# Altium footprint library 618 0xx 293 21.PcbLib: 4 footprints
Each footprint in its own frame and in the unit in brackets; x right, y up, seen from the top. Pads: shape width x height; smd on the part's side, far side on the other; paste and mask are expansions set on the pad; w line width, h text height; cw(c..) or ccw(c..) is an arc to the next point about the centre after c.
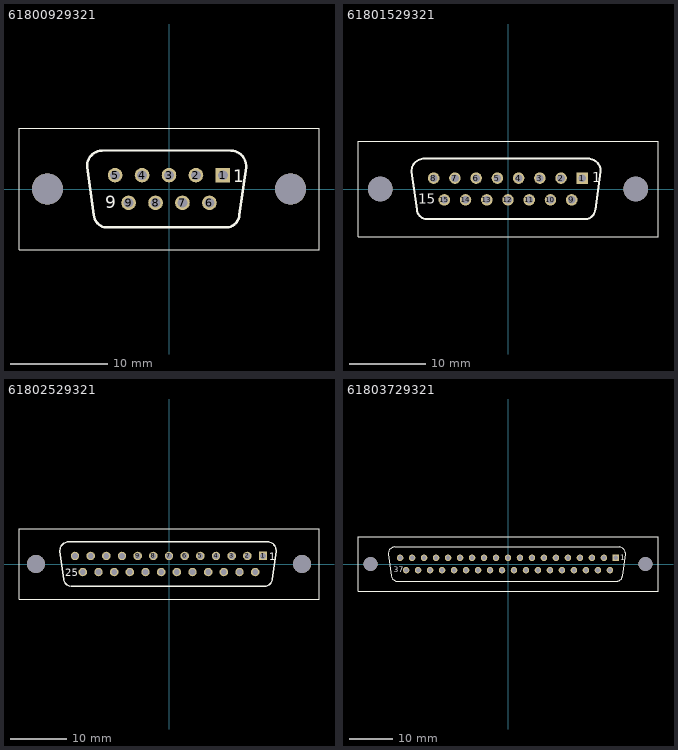
[diagram p0: the footprints below, top view; thin cyan lines are the x and y axes]

## 61800929321 [mm] "Female 09p Straight With board clip & Hex screw UNC 4-40"
height 11
pads (11):
  rect 1.5x1.5 hole 1: 1(5.54,1.42)
  round 1.5 hole 1: 2(2.77,1.42) 3(0,1.42) 4(-2.77,1.42) 5(-5.54,1.42) 6(4.155,-1.42) 7(1.385,-1.42) 8(-1.385,-1.42) 9(-4.155,-1.42)
  round 3.2 hole 3.2 unplated: ""(-12.495,0) ""(12.495,0)
Top Overlay:
  lines w0.127: -15.405,-6.25 15.405,-6.25 15.405,6.25 -15.405,6.25 -15.405,-6.25
  lines w0.254: -6.915,3.95 ccw(c-6.809,2.343) -8.415,2.237 -7.727,-2.663 ccw(c-6.34,-2.564) -6.656,-3.917 ; -6.915,3.954 6.4,3.954 ; -6.604,-3.933 6.096,-3.933 ; 6.156,-3.917 ccw(c5.84,-2.564) 7.227,-2.663 7.915,2.237 ccw(c6.309,2.343) 6.415,3.95
  text "1" at 6.604,0.686 h1.27
  text "9" at -6.528,-1.981 h1.27
3D body: height 12.7, standoff -4, extent -15.405,-6.25 15.405,6.25

## 61801529321 [mm] "Female 15p Straight With board clip & Hex screw UNC 4-40"
height 11
pads (17):
  rect 1.5x1.5 hole 1: 1(9.695,1.42)
  round 1.5 hole 1: 2(6.925,1.42) 3(4.155,1.42) 4(1.385,1.42) 5(-1.385,1.42) 6(-4.155,1.42) 7(-6.925,1.42) 8(-9.695,1.42) 9(8.31,-1.42) 10(5.54,-1.42) 11(2.77,-1.42) 12(0,-1.42) 13(-2.77,-1.42) 14(-5.54,-1.42) 15(-8.31,-1.42)
  round 3.2 hole 3.2 unplated: ""(-16.66,0) ""(16.66,0)
Top Overlay:
  lines w0.127: -19.57,-6.25 -19.57,6.25 19.57,6.25 19.57,-6.25 -19.57,-6.25
  lines w0.254: -11.08,3.95 ccw(c-10.974,2.344) -12.581,2.237 -11.892,-2.663 ccw(c-10.505,-2.564) -10.822,-3.917 ; -11.08,3.954 10.668,3.954 ; -10.795,-3.937 10.287,-3.937 ; 10.161,-3.945 ccw(c10.005,-2.564) 11.392,-2.663 12.08,2.237 ccw(c10.474,2.344) 10.58,3.95
  text "15" at -11.735,-1.956 h1.27
  text "1" at 10.973,0.864 h1.27
3D body: height 12.7, standoff -4, extent -19.57,-6.25 19.57,6.25

## 61802529321 [mm] "Female 25p Straight With board clip & Hex screw UNC 4-40"
height 11
pads (27):
  rect 1.5x1.5 hole 1: 1(16.62,1.42)
  round 1.5 hole 1: 2(13.85,1.42) 3(11.08,1.42) 4(8.31,1.42) 5(5.54,1.42) 6(2.77,1.42) 7(0,1.42) 8(-2.77,1.42) 9(-5.54,1.42) 10(-8.31,1.42) 11(-11.08,1.42) 12(-13.85,1.42) 13(-16.62,1.42) 14(15.235,-1.42) 15(12.465,-1.42) 16(9.695,-1.42) 17(6.925,-1.42) 18(4.155,-1.42) 19(1.385,-1.42) 20(-1.385,-1.42) 21(-4.155,-1.42) 22(-6.925,-1.42) 23(-9.695,-1.42) 24(-12.465,-1.42) 25(-15.235,-1.42)
  round 3.2 hole 3.2 unplated: ""(-23.52,0) ""(23.52,0)
Top Overlay:
  lines w0.127: -26.52,-6.25 26.52,-6.25 26.52,6.25 -26.52,6.25 -26.52,-6.25
  lines w0.254: -17.94,3.954 17.526,3.954 ; -17.78,3.937 ccw(c-17.674,2.331) -19.28,2.224 -18.592,-2.675 ccw(c-17.205,-2.577) -17.521,-3.93 ; -17.399,-3.937 17.018,-3.937 ; 17.019,-3.945 ccw(c16.865,-2.564) 18.252,-2.663 18.94,2.237 ccw(c17.334,2.343) 17.44,3.95
  text "1" at 17.755,0.635 h1.27
  text "25" at -18.313,-2.134 h1.27
3D body: height 12.7, standoff -4, extent -26.52,-6.25 26.52,6.25

## 61803729321 [mm] "Female 37p Straight With board clip & Hex screw UNC 4-40"
height 11
pads (39):
  rect 1.5x1.5 hole 1: 1(24.93,1.42)
  round 1.5 hole 1: 2(22.16,1.42) 3(19.39,1.42) 4(16.62,1.42) 5(13.85,1.42) 6(11.08,1.42) 7(8.31,1.42) 8(5.54,1.42) 9(2.77,1.42) 10(0,1.42) 11(-2.77,1.42) 12(-5.54,1.42) 13(-8.31,1.42) 14(-11.08,1.42) 15(-13.85,1.42) 16(-16.62,1.42) 17(-19.39,1.42) 18(-22.16,1.42) 19(-24.93,1.42) 20(23.545,-1.42) 21(20.775,-1.42) 22(18.005,-1.42) 23(15.235,-1.42) 24(12.465,-1.42) 25(9.695,-1.42) 26(6.925,-1.42) 27(4.155,-1.42) 28(1.385,-1.42) 29(-1.385,-1.42) 30(-4.155,-1.42) 31(-6.925,-1.42) 32(-9.695,-1.42) 33(-12.465,-1.42) 34(-15.235,-1.42) 35(-18.005,-1.42) 36(-20.775,-1.42) 37(-23.545,-1.42)
  round 3.2 hole 3.2 unplated: ""(-31.75,0) ""(31.75,0)
Top Overlay:
  lines w0.127: -34.66,-6.25 -34.66,6.25 34.66,6.25 34.66,-6.25 -34.66,-6.25
  lines w0.254: -26.17,3.95 ccw(c-26.064,2.344) -27.67,2.237 -26.982,-2.663 ccw(c-25.595,-2.564) -25.911,-3.917 ; -26.17,3.954 25.67,3.954 ; -25.908,-3.933 25.349,-3.933 ; 25.323,-3.935 ccw(c25.095,-2.564) 26.482,-2.663 27.17,2.237 ccw(c25.564,2.344) 25.67,3.95
  text "37" at -26.391,-1.905 h1.27
  text "1" at 25.933,0.914 h1.27
3D body: height 12.7, standoff -4, extent -34.66,-6.25 34.66,6.25